# EAGLE library part SN74AC14 (library act-global-nolan)
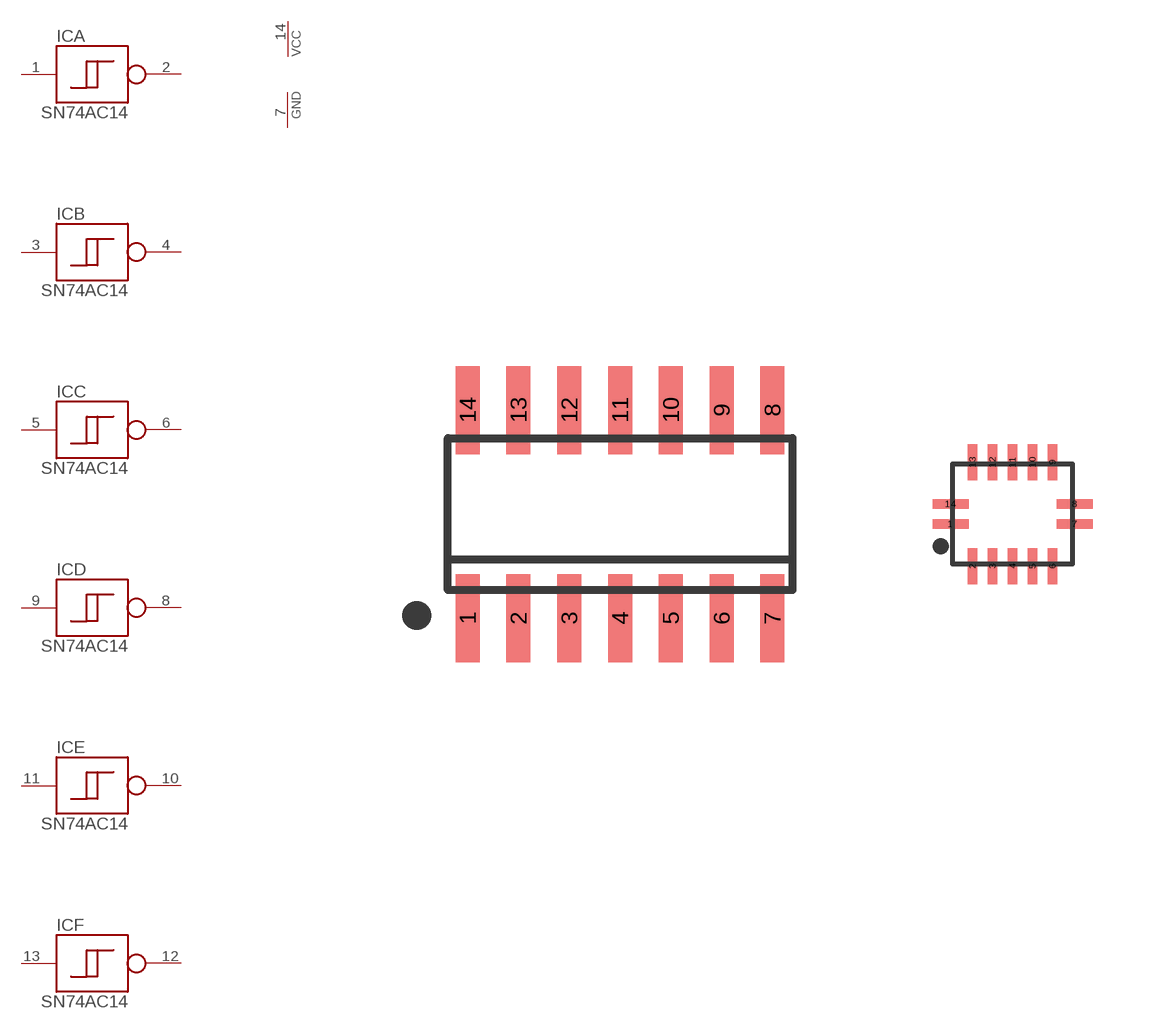
[diagram p14: symbol with the pads of SO14; footprints SO14, DQFN-14]

Designator prefix IC; gates A=INVERTER B=INVERTER C=INVERTER D=INVERTER E=INVERTER F=INVERTER PWR=PWRN

## SN74AC14SO  [SO14]
1  A:A
2  A:Y
3  B:A
4  B:Y
5  C:A
6  C:Y
7  PWR:GND  pwr
8  D:Y
9  D:A
10  E:Y
11  E:A
12  F:Y
13  F:A
14  PWR:VCC  pwr

## SN74AC14QF  [DQFN-14]
Pads as for SO14

## Footprint SO14 (pad centres in mm)
SMALL OUTLINE INTEGRATED CIRCUIT body 3.9 mm/JEDEC MS-012AC
smd 0.6 x 2.2: 1 -3.81,-2.6; 2 -2.54,-2.6; 3 -1.27,-2.6; 4 0,-2.6; 5 1.27,-2.6; 6 2.54,-2.6; 7 3.81,-2.6; 8 3.81,2.6; 9 2.54,2.6; 10 1.27,2.6; 11 0,2.6; 12 -1.27,2.6; 13 -2.54,2.6; 14 -3.81,2.6

## Footprint DQFN-14 (pad centres in mm)
smd 0.9 x 0.24: 1 -1.55,-0.25; 7 1.55,-0.25; 8 1.55,0.25; 14 -1.55,0.25
smd 0.24 x 0.9: 2 -1,-1.3; 3 -0.5,-1.3; 4 0,-1.3; 5 0.5,-1.3; 6 1,-1.3; 9 1,1.3; 10 0.5,1.3; 11 0,1.3; 12 -0.5,1.3; 13 -1,1.3